# Altium integrated library RC0402FR-0747K5L.IntLib: 1 symbol
Pins are listed as number, name and electrical type; pins without a type are passive.

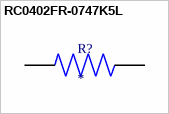
[diagram p0: symbol RC0402FR-0747K5L]

## RC0402FR-0747K5L
designator R?
Res Thick Film 0402 47.5K Ohm 1% 0.063W(1/16W) ??100ppm/??C Epoxy SMD T/R; MP: RC0402FR-0747K5L; Package: None; Price: None; Value: *; Availability: Unavailable
footprint RESC1005X40N
pins: 1, 2